# Altium footprint library Pcblibv2.PcbLib: 88 footprints (part 5 of 6)
Each footprint in its own frame and in the unit in brackets; x right, y up, seen from the top. Pads: shape width x height; smd on the part's side, far side on the other; paste and mask are expansions set on the pad; w line width, h text height; cw(c..) or ccw(c..) is an arc to the next point about the centre after c.
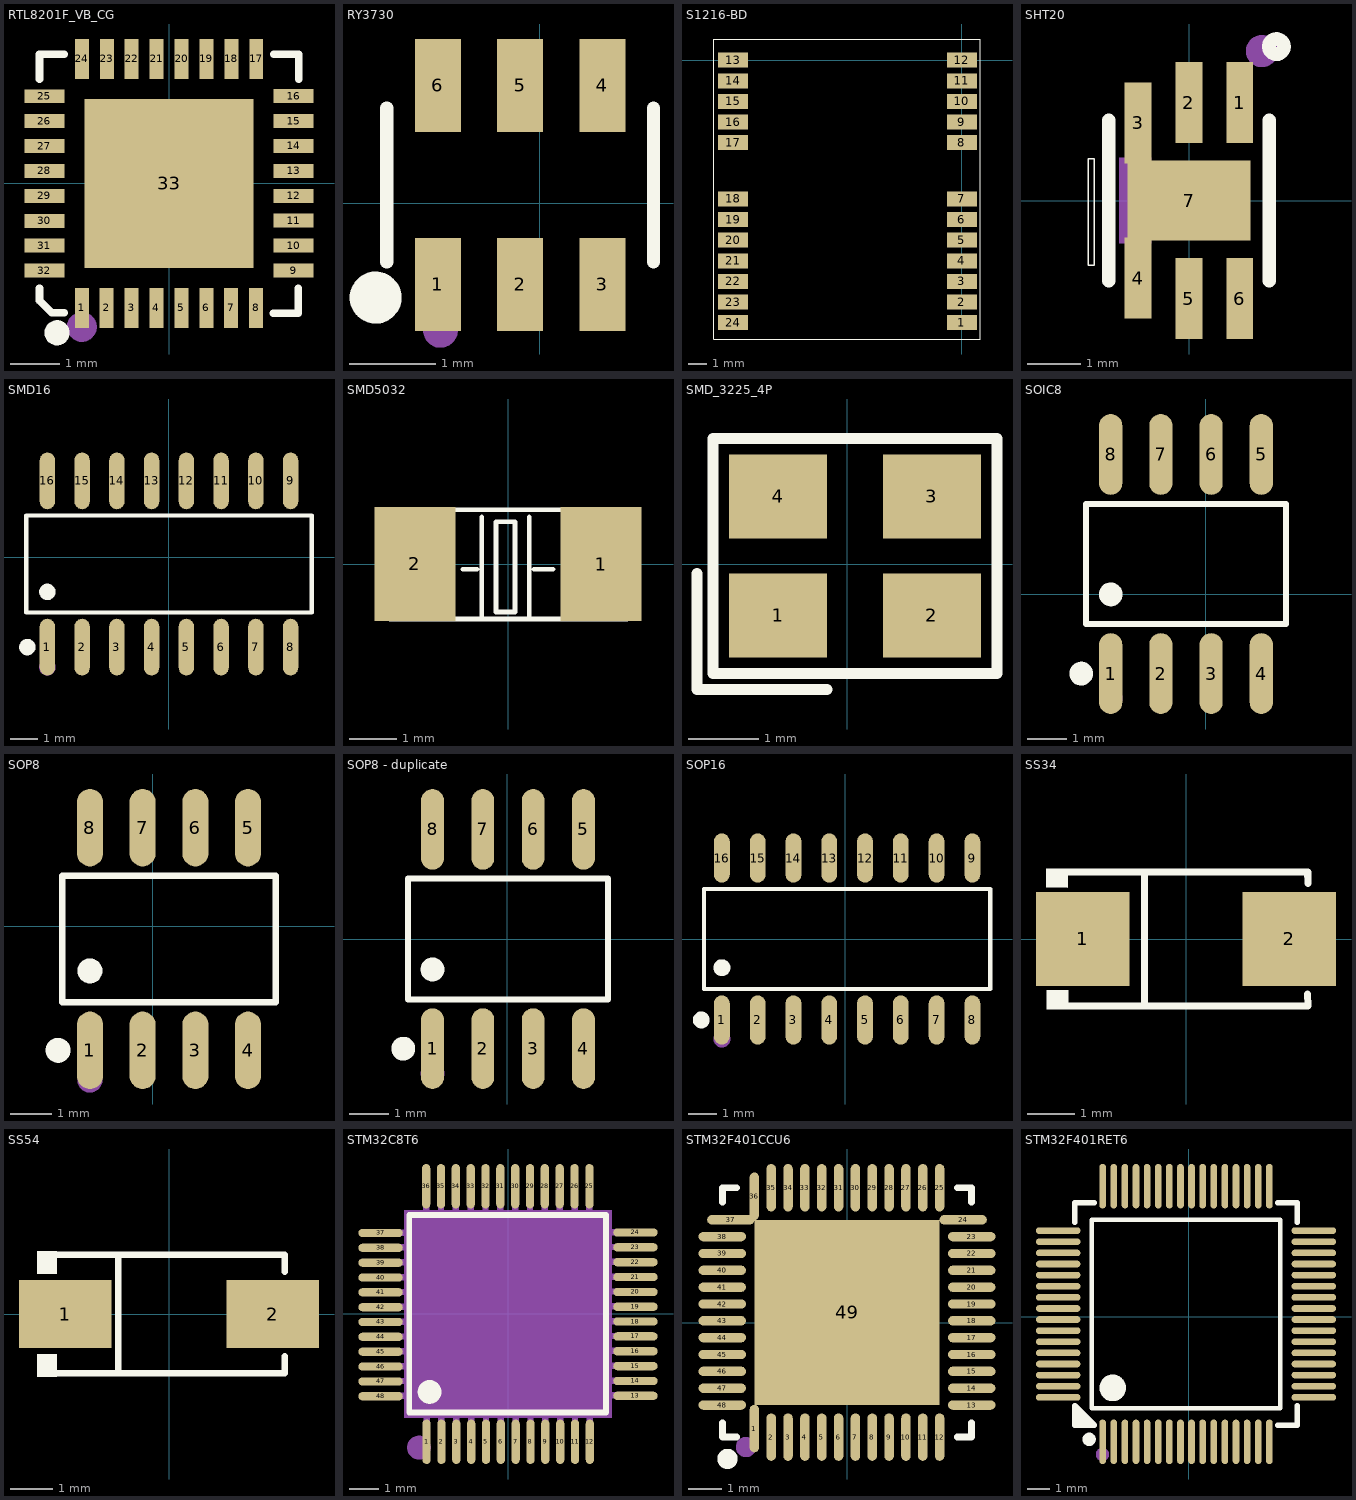
[diagram p4: the footprints below, top view; thin cyan lines are the x and y axes]

## RTL8201F_VB_CG [mm]
pads (33):
  rect 0.28x0.8 smd: 1(-1.75,-2.5) 2(-1.251,-2.5) 3(-0.751,-2.5) 4(-0.251,-2.5) 5(0.249,-2.5) 6(0.749,-2.5) 7(1.249,-2.5) 8(1.749,-2.5) 17(1.752,2.5) 18(1.251,2.5) 19(0.752,2.5) 20(0.251,2.5) 21(-0.248,2.5) 22(-0.749,2.5) 23(-1.248,2.5) 24(-1.749,2.5)
  rect 0.8x0.28 smd: 9(2.5,-1.748) 10(2.5,-1.248) 11(2.5,-0.748) 12(2.5,-0.248) 13(2.5,0.252) 14(2.5,0.752) 15(2.5,1.252) 16(2.5,1.752) 25(-2.5,1.75) 26(-2.5,1.25) 27(-2.5,0.75) 28(-2.5,0.25) 29(-2.5,-0.25) 30(-2.5,-0.75) 31(-2.5,-1.25) 32(-2.5,-1.75)
  rect 3.4x3.4 smd: 33(0,0)
Top Overlay:
  circle w0.254: c-2.248,-2.998 r0.125
  lines w0.152: -2.6,-2.1 -2.6,-2.35 -2.35,-2.6 -2.1,-2.6 ; -2.599,2.097 -2.599,2.597 -2.099,2.597 ; 2.098,-2.602 2.598,-2.602 2.598,-2.103 ; 2.103,2.597 2.602,2.597 2.602,2.097
Mechanical 15:
  circle w0.3: c-1.75,-2.88 r0.15

## RY3730 [mm]
pads (6):
  rect 0.532x1.072 smd: 1(-1.18,-0.936) 2(-0.23,-0.936) 3(0.72,-0.936) 4(0.72,1.362) 5(-0.23,1.362) 6(-1.18,1.362)
Top Overlay:
  circle w0.3: c-1.898,-1.088 r0.15
  lines w0.152: -1.769,-0.676 -1.769,1.102 ; 1.309,-0.676 1.309,1.102
Mechanical 15:
  circle w0.2: c-1.15,-1.467 r0.1

## S1216-BD [mm]
pads (24):
  rect 1.6x0.8 smd: 1(0,-14) 2(0,-12.9) 3(0,-11.8) 4(0,-10.7) 5(0,-9.6) 6(0,-8.5) 7(0,-7.4) 8(0,-4.4) 9(0,-3.3) 10(0,-2.2) 11(0,-1.1) 12(0,0) 13(-12.2,0) 14(-12.2,-1.1) 15(-12.2,-2.2) 16(-12.2,-3.3) 17(-12.2,-4.4) 18(-12.2,-7.4) 19(-12.2,-8.5) 20(-12.2,-9.6) 21(-12.2,-10.7) 22(-12.2,-11.8) 23(-12.2,-12.9) 24(-12.2,-14)
Top Overlay:
  lines w0.025: -13.226,-14.87 0.97,-14.87 0.97,1.13 -13.226,1.13 -13.226,-14.87

## SHT20 [mm]
pads (7):
  rect 0.5x1.512 smd: 1(0.946,1.831) 2(-0.004,1.831) 3(-0.954,1.45) 4(-0.954,-1.451) 5(-0.004,-1.832) 6(0.946,-1.832)
  rect 2.3x1.5 smd: 7(0,0)
Top Overlay:
  circle w0.254: c1.631,2.878 r0.141
  lines w0.025: -1.89,-1.209 -1.89,0.782 -1.852,0.782 -1.778,0.782 -1.778,-1.209 -1.89,-1.209
  lines w0.254: -1.504,-1.499 -1.504,1.501 ; 1.496,-1.499 1.496,1.501
Mechanical 15:
  circle w0.3: c1.361,2.791 r0.15
  region: -1.304,0.801 -0.704,0.801 -0.704,-0.799 -1.304,-0.799

## SMD16 [mm]
pads (16):
  oval 0.56x2.075 smd: 1(-4.427,-3.283) 2(-3.157,-3.283) 3(-1.887,-3.283) 4(-0.617,-3.283) 5(0.653,-3.283) 6(1.923,-3.283) 7(3.193,-3.283) 8(4.463,-3.283) 9(4.463,2.792) 10(3.193,2.792) 11(1.923,2.792) 12(0.653,2.792) 13(-0.617,2.792) 14(-1.887,2.792) 15(-3.157,2.792) 16(-4.427,2.792)
Top Overlay:
  circle w0.3: c-4.427,-1.265 r0.15
  circle w0.3: c-5.16,-3.283 r0.15
  lines w0.152: -5.199,-2.017 -5.199,1.526 5.234,1.526 5.234,-2.017 -5.199,-2.017
Mechanical 15:
  circle w0.3: c-4.427,-4.02 r0.15

## SMD5032 [mm]
pads (2):
  rect 1.7x2.4 smd: 1(1.96,0.005) 2(-1.96,0.006)
Top Overlay:
  lines w0.1: -0.954,-0.104 -0.654,-0.104 ; -0.554,-1.104 -0.554,0.996 ; 0.446,-1.104 0.446,0.996 ; 0.546,-0.104 0.946,-0.104 ; -0.254,-1.004 0.146,-1.004 0.146,0.896 -0.254,0.896 -0.254,-1.004
  lines w0.102: -2.487,-1.155 2.514,-1.155 ; -2.486,-1.152 -2.486,1.147 2.513,1.147 2.513,-1.152

## SMD_3225_4P [mm]
pads (4):
  rect 1.4x1.2 smd: 1(-0.986,-0.736) 2(1.214,-0.736) 3(1.214,0.964) 4(-0.986,0.964)
Top Overlay:
  lines w0.152: -2.143,-0.136 -2.143,-1.793 -0.286,-1.793 ; -1.914,-1.564 2.143,-1.564 2.143,1.793 -1.914,1.793 -1.914,-1.564
Mechanical 15:
  circle w0.36: c-1.029,-0.775 r0.18

## SOIC8 [mm]
pads (8):
  oval 0.588x2.045 smd: 1(-2.408,-2.002) 2(-1.138,-2.002) 3(0.132,-2.002) 4(1.402,-2.002) 5(1.402,3.543) 6(0.132,3.543) 7(-1.138,3.543) 8(-2.408,3.543)
Top Overlay:
  circle w0.3: c-3.154,-2.002 r0.15
  circle w0.3: c-2.408,0.002 r0.15
  lines w0.152: -3.029,-0.751 2.024,-0.751 2.024,2.292 -3.029,2.292 -3.029,-0.751
Mechanical 15:
  circle w0.3: c-2.408,-2.629 r0.15

## SOP8 [mm]
pads (8):
  oval 0.63x1.865 smd: 1(-1.518,-2.985) 2(-0.248,-2.985) 3(1.022,-2.985) 4(2.292,-2.985) 5(2.292,2.38) 6(1.022,2.38) 7(-0.248,2.38) 8(-1.518,2.38)
Top Overlay:
  circle w0.3: c-2.286,-2.985 r0.15
  circle w0.3: c-1.518,-1.071 r0.15
  lines w0.152: -2.189,-1.824 2.963,-1.824 2.963,1.219 -2.189,1.219 -2.189,-1.824
Mechanical 15:
  circle w0.3: c-1.518,-3.702 r0.15

## SOP8 - duplicate [mm]
pads (8):
  oval 0.574x2.036 smd: 1(-1.885,-2.768) 2(-0.615,-2.768) 3(0.655,-2.768) 4(1.925,-2.768) 5(1.925,2.768) 6(0.655,2.768) 7(-0.615,2.768) 8(-1.885,2.768)
Top Overlay:
  circle w0.3: c-1.885,-0.769 r0.15
  circle w0.3: c-2.624,-2.768 r0.15
  lines w0.152: -2.506,-1.521 -2.506,1.521 2.546,1.521 2.546,-1.521 -2.506,-1.521
Mechanical 15:
  circle w0.3: c-1.885,-3.398 r0.15

## SOP16 [mm]
pads (16):
  oval 0.56x1.745 smd: 1(-4.382,-2.873) 2(-3.112,-2.873) 3(-1.842,-2.873) 4(-0.572,-2.873) 5(0.698,-2.873) 6(1.968,-2.873) 7(3.238,-2.873) 8(4.508,-2.873) 9(4.508,2.873) 10(3.238,2.873) 11(1.968,2.873) 12(0.698,2.873) 13(-0.572,2.873) 14(-1.842,2.873) 15(-3.112,2.873) 16(-4.382,2.873)
Top Overlay:
  circle w0.3: c-5.115,-2.872 r0.15
  circle w0.3: c-4.382,-1.019 r0.15
  lines w0.152: -5.013,-1.771 5.139,-1.771 5.139,1.771 -5.013,1.771 -5.013,-1.771
Mechanical 15:
  circle w0.3: c-4.382,-3.55 r0.15

## SS34 [mm]
pads (2):
  rect 2x2 smd: 1(-2.2,0) 2(2.2,0)
Top Overlay:
  region: -2.512,-1.096 -2.513,-1.502 -2.973,-1.498 -2.969,-1.096
  region: -2.52,1.502 -2.521,1.096 -2.981,1.1 -2.977,1.502
  lines w0.152: -2.596,-1.426 2.596,-1.426 ; -2.596,1.426 2.596,1.426 2.603,1.187 ; -0.884,-1.426 -0.884,1.426 ; 2.593,-1.176 2.6,-1.415
Mechanical 15:
  region: 2.014,-0.675 2.014,0.675 1.811,0.675 1.811,-0.675
  region: 2.29,-0.09 2.29,0.113 1.48,0.113 1.48,-0.09
  region: -2.317,-0.101 -2.317,0.101 -1.507,0.101 -1.507,-0.101

## SS54 [mm]
pads (2):
  rect 2.185x1.593 smd: 1(-2.442,0) 2(2.442,0)
Top Overlay:
  region: -2.65,1.477 -2.65,0.949 -3.107,0.949 -3.107,1.477
  region: -2.65,-1.477 -2.65,-0.949 -3.107,-0.949 -3.107,-1.477
  lines w0.152: -2.726,-1.401 2.726,-1.401 2.726,-1 ; -2.726,1.401 2.726,1.401 2.726,1 ; -1.197,-1.401 -1.197,1.401
Mechanical 15:
  region: -2.451,-0.099 -2.451,0.099 -1.656,0.099 -1.656,-0.099
  region: 2.451,-0.099 2.451,0.099 1.656,0.099 1.656,-0.099
  region: 2.153,-0.663 2.153,0.663 1.954,0.663 1.954,-0.663

## STM32C8T6 [mil]
pads (48):
  oval 11.02x58.89 smd: 1(-108,-169.5) 2(-88.3,-169.5) 3(-68.6,-169.5) 4(-48.9,-169.5) 5(-29.2,-169.5) 6(-9.5,-169.5) 7(10.1,-169.5) 8(29.8,-169.5) 9(49.5,-169.5) 10(69.2,-169.5) 11(88.9,-169.5) 12(108.6,-169.5) 25(108,169.5) 26(88.3,169.5) 27(68.6,169.5) 28(48.9,169.5) 29(29.2,169.5) 30(9.5,169.5) 31(-10.1,169.5) 32(-29.8,169.5) 33(-49.5,169.5) 34(-69.2,169.5) 35(-88.9,169.5) 36(-108.6,169.5)
  oval 58.89x11.02 smd: 13(169,-108.5) 14(169,-88.8) 15(169,-69.1) 16(169,-49.4) 17(169,-29.7) 18(169,-10) 19(169,9.6) 20(169,29.3) 21(169,49) 22(169,68.7) 23(169,88.4) 24(169,108.1) 37(-169,107.5) 38(-169,87.8) 39(-169,68.1) 40(-169,48.4) 41(-169,28.7) 42(-169,9) 43(-169,-10.6) 44(-169,-30.3) 45(-169,-50) 46(-169,-69.7) 47(-169,-89.4) 48(-169,-109.1)
Top Overlay:
  lines w7.87: -114,131.5 130,131.5 130,-130.5 -131,-130.5 -131,131.5 -101,131.5
  lines w15.75: -104,-95.5 ccw(c-103.95,-103.37) -103.9,-95.5
Mechanical 4:
  region: -137.79,137.79 137.79,137.79 137.79,-137.8 -137.79,-137.8
Mechanical 5:
  drawing of 96 lines, arcs and shapes, not listed
Mechanical 15:
  circle w15.75: c-118.11,-177.17 r7.87
3D body "STM32F103C8T6--3DModel-STEP-56544.STEP": height 78.25, standoff 15.26, extent -173.16,-175.16 181.16,179.16

## STM32F401CCU6 [mm]
pads (49):
  oval 0.28x1.408 smd: 1(-2.751,-3.148) 2(-2.25,-3.402) 3(-1.75,-3.402) 4(-1.25,-3.402) 5(-0.749,-3.402) 6(-0.249,-3.402) 7(0.249,-3.402) 8(0.749,-3.402) 9(1.25,-3.402) 10(1.75,-3.402) 11(2.25,-3.402) 12(2.751,-3.402) 25(2.751,4.004) 26(2.25,4.004) 27(1.75,4.004) 28(1.25,4.004) 29(0.749,4.004) 30(0.249,4.004) 31(-0.249,4.004) 32(-0.749,4.004) 33(-1.25,4.004) 34(-1.75,4.004) 35(-2.25,4.004) 36(-2.751,3.75)
  oval 1.408x0.28 smd: 13(3.703,-2.45) 14(3.703,-1.949) 15(3.703,-1.449) 16(3.703,-0.949) 17(3.703,-0.448) 18(3.703,0.052) 19(3.703,0.55) 20(3.703,1.05) 21(3.703,1.551) 22(3.703,2.051) 23(3.703,2.551) 24(3.449,3.052) 37(-3.449,3.052) 38(-3.703,2.551) 39(-3.703,2.051) 40(-3.703,1.551) 41(-3.703,1.05) 42(-3.703,0.55) 43(-3.703,0.052) 44(-3.703,-0.448) 45(-3.703,-0.949) 46(-3.703,-1.449) 47(-3.703,-1.949) 48(-3.703,-2.45)
  rect 5.5x5.5 smd: 49(0,0.301)
Top Overlay:
  lines w0.2: -3.7,-2.974 -3.7,-3.399 -3.275,-3.399 ; -3.7,3.576 -3.7,4.001 -3.275,4.001 ; 3.275,-3.399 3.7,-3.399 3.7,-2.974 ; 3.275,4.001 3.7,4.001 3.7,3.576
  lines w0.3: -3.551,-3.9 ccw(c-3.55,-4.05) -3.549,-3.9
Mechanical 15:
  circle w0.3: c-3,-3.699 r0.15

## STM32F401RET6 [mm]
pads (64):
  oval 0.3x2 smd: 1(-3.877,-5.623) 2(-3.377,-5.623) 3(-2.877,-5.623) 4(-2.377,-5.623) 5(-1.877,-5.623) 6(-1.377,-5.623) 7(-0.877,-5.623) 8(-0.377,-5.623) 9(0.123,-5.623) 10(0.623,-5.623) 11(1.123,-5.623) 12(1.623,-5.623) 13(2.123,-5.623) 14(2.623,-5.623) 15(3.123,-5.623) 16(3.623,-5.623) 33(3.623,5.877) 34(3.123,5.877) 35(2.623,5.877) 36(2.123,5.877) 37(1.623,5.877) 38(1.123,5.877) 39(0.623,5.877) 40(0.123,5.877) 41(-0.377,5.877) 42(-0.877,5.877) 43(-1.377,5.877) 44(-1.877,5.877) 45(-2.377,5.877) 46(-2.877,5.877) 47(-3.377,5.877) 48(-3.877,5.877)
  oval 2x0.3 smd: 17(5.623,-3.623) 18(5.623,-3.123) 19(5.623,-2.623) 20(5.623,-2.123) 21(5.623,-1.623) 22(5.623,-1.123) 23(5.623,-0.623) 24(5.623,-0.123) 25(5.623,0.377) 26(5.623,0.877) 27(5.623,1.377) 28(5.623,1.877) 29(5.623,2.377) 30(5.623,2.877) 31(5.623,3.377) 32(5.623,3.877) 49(-5.877,3.877) 50(-5.877,3.377) 51(-5.877,2.877) 52(-5.877,2.377) 53(-5.877,1.877) 54(-5.877,1.377) 55(-5.877,0.877) 56(-5.877,0.377) 57(-5.877,-0.123) 58(-5.877,-0.623) 59(-5.877,-1.123) 60(-5.877,-1.623) 61(-5.877,-2.123) 62(-5.877,-2.623) 63(-5.877,-3.123) 64(-5.877,-3.623)
Top Overlay:
  region: -4.258,-4.873 -5.127,-4.004 -5.127,-4.873
  lines w0.2: -4.377,-4.123 4.123,-4.123 4.123,4.377 -4.377,4.377 -4.377,-4.123
  lines w0.254: -5.127,4.258 -5.127,5.127 -4.258,5.127 ; 4.004,-4.873 4.873,-4.873 4.873,-4.004 ; 4.004,5.127 4.873,5.127 4.873,4.258 ; -5.127,-4.004 -5.127,-4.873 -4.258,-4.873 -5.127,-4.004 ; -5.127,-4.004 -5.127,-4.004
  lines w0.3: -4.488,-5.363 ccw(c-4.487,-5.513) -4.486,-5.363
  lines w0.6: -3.426,-2.898 ccw(c-3.424,-3.198) -3.421,-2.898
Mechanical 15:
  circle w0.3: c-3.887,-6.193 r0.15